# EAGLE library part STM32H743ZI (library ICs)
ARM® Cortex®-M7 STM32H7 Microcontroller IC 32-Bit 480MHz 2MB (2M x 8) FLASH 144-LQFP (20x20)
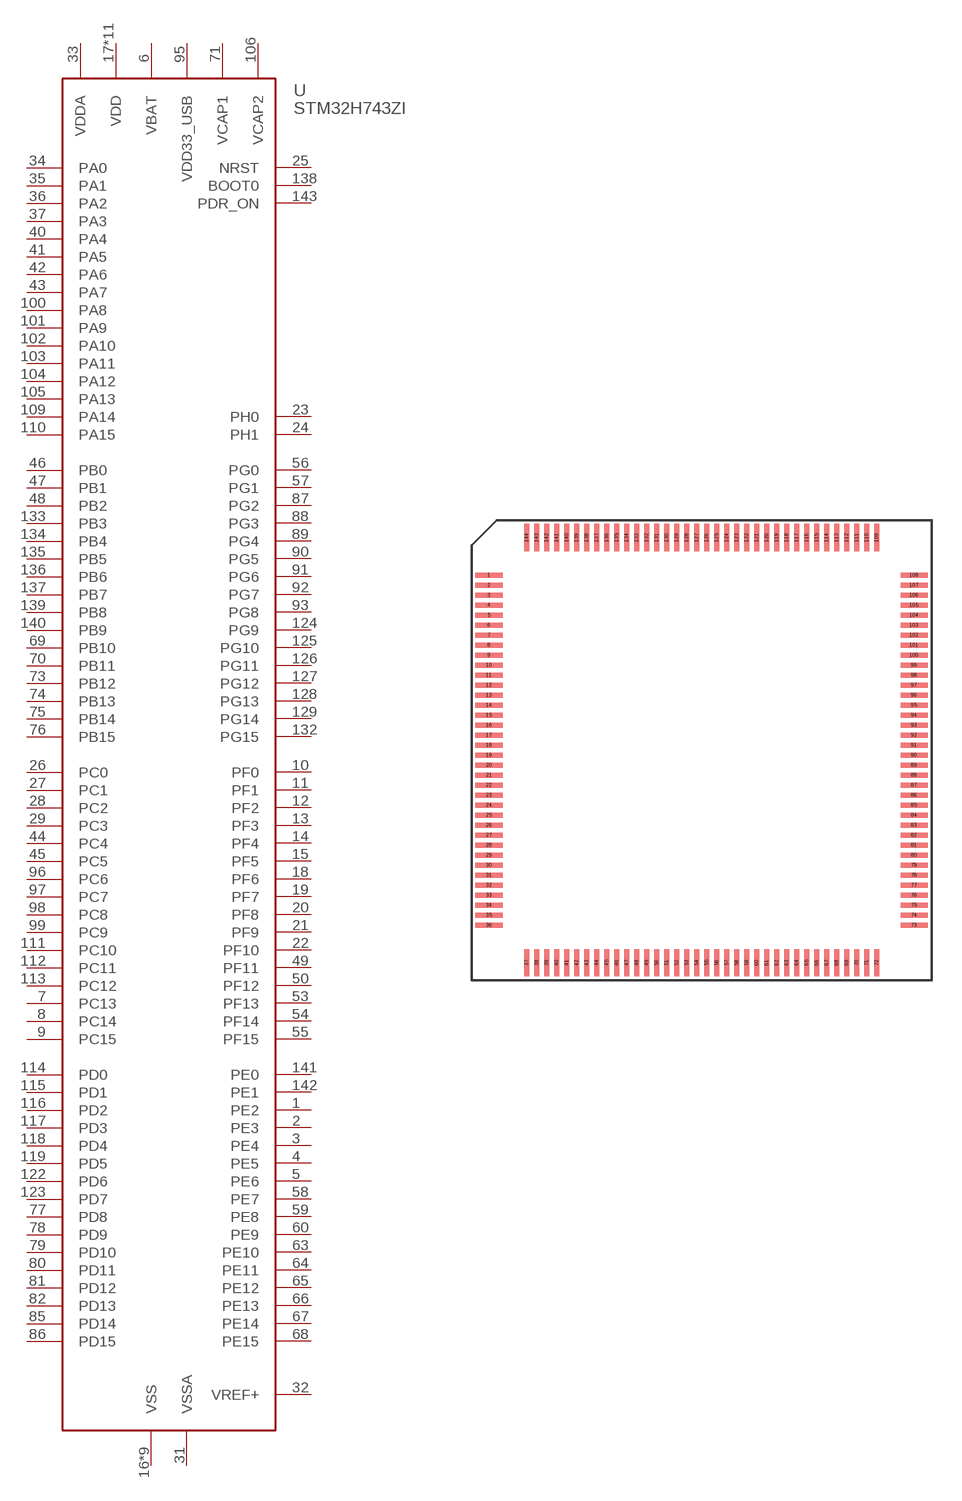
[diagram p255: symbol with the pads of QFP144; footprint QFP144]

Designator prefix U

## STM32H743ZI (DIGIKEY: 497-17721-ND; HEIGHT: 2; PRICE_PER: 11.56; VALUE: STM32H743ZI)  [QFP144]
1  PE2
2  PE3
3  PE4
4  PE5
5  PE6
6  VBAT
7  PC13
8  PC14
9  PC15
10  PF0
11  PF1
12  PF2
13  PF3
14  PF4
15  PF5
16  VSS
17  VDD
18  PF6
19  PF7
20  PF8
21  PF9
22  PF10
23  PH0
24  PH1
25  NRST
26  PC0
27  PC1
28  PC2
29  PC3
30  VDD
31  VSSA
32  VREF+
33  VDDA
34  PA0
35  PA1
36  PA2
37  PA3
38  VSS
39  VDD
40  PA4
41  PA5
42  PA6
43  PA7
44  PC4
45  PC5
46  PB0
47  PB1
48  PB2
49  PF11
50  PF12
51  VSS
52  VDD
53  PF13
54  PF14
55  PF15
56  PG0
57  PG1
58  PE7
59  PE8
60  PE9
61  VSS
62  VDD
63  PE10
64  PE11
65  PE12
66  PE13
67  PE14
68  PE15
69  PB10
70  PB11
71  VCAP1
72  VDD
73  PB12
74  PB13
75  PB14
76  PB15
77  PD8
78  PD9
79  PD10
80  PD11
81  PD12
82  PD13
83  VSS
84  VDD
85  PD14
86  PD15
87  PG2
88  PG3
89  PG4
90  PG5
91  PG6
92  PG7
93  PG8
94  VSS
95  VDD33_USB
96  PC6
97  PC7
98  PC8
99  PC9
100  PA8
101  PA9
102  PA10
103  PA11
104  PA12
105  PA13
106  VCAP2
107  VSS
108  VDD
109  PA14
110  PA15
111  PC10
112  PC11
113  PC12
114  PD0
115  PD1
116  PD2
117  PD3
118  PD4
119  PD5
120  VSS
121  VDD
122  PD6
123  PD7
124  PG9
125  PG10
126  PG11
127  PG12
128  PG13
129  PG14
130  VSS
131  VDD
132  PG15
133  PB3
134  PB4
135  PB5
136  PB6
137  PB7
138  BOOT0
139  PB8
140  PB9
141  PE0
142  PE1
143  PDR_ON
144  VDD

## Footprint QFP144 (pad centres in mm)
smd 1.35 x 0.25: 1 -10.625,8.75; 2 -10.625,8.25; 3 -10.625,7.75; 4 -10.625,7.25; 5 -10.625,6.75; 6 -10.625,6.25; 7 -10.625,5.75; 8 -10.625,5.25; 9 -10.625,4.75; 10 -10.625,4.25; 11 -10.625,3.75; 12 -10.625,3.25; 13 -10.625,2.75; 14 -10.625,2.25; 15 -10.625,1.75; 16 -10.625,1.25; 17 -10.625,0.75; 18 -10.625,0.25; 19 -10.625,-0.25; 20 -10.625,-0.75; 21 -10.625,-1.25; 22 -10.625,-1.75; 23 -10.625,-2.25; 24 -10.625,-2.75; 25 -10.625,-3.25; 26 -10.625,-3.75; 27 -10.625,-4.25; 28 -10.625,-4.75; 29 -10.625,-5.25; 30 -10.625,-5.75; 31 -10.625,-6.25; 32 -10.625,-6.75; 33 -10.625,-7.25; 34 -10.625,-7.75; 35 -10.625,-8.25; 36 -10.625,-8.75; 73 10.625,-8.75; 74 10.625,-8.25; 75 10.625,-7.75; 76 10.625,-7.25; 77 10.625,-6.75; 78 10.625,-6.25; 79 10.625,-5.75; 80 10.625,-5.25; 81 10.625,-4.75; 82 10.625,-4.25; 83 10.625,-3.75; 84 10.625,-3.25; 85 10.625,-2.75; 86 10.625,-2.25; 87 10.625,-1.75; 88 10.625,-1.25; 89 10.625,-0.75; 90 10.625,-0.25; 91 10.625,0.25; 92 10.625,0.75; 93 10.625,1.25; 94 10.625,1.75; 95 10.625,2.25; 96 10.625,2.75; 97 10.625,3.25; 98 10.625,3.75; 99 10.625,4.25; 100 10.625,4.75; 101 10.625,5.25; 102 10.625,5.75; 103 10.625,6.25; 104 10.625,6.75; 105 10.625,7.25; 106 10.625,7.75; 107 10.625,8.25; 108 10.625,8.75
smd 0.25 x 1.35: 37 -8.75,-10.625; 38 -8.25,-10.625; 39 -7.75,-10.625; 40 -7.25,-10.625; 41 -6.75,-10.625; 42 -6.25,-10.625; 43 -5.75,-10.625; 44 -5.25,-10.625; 45 -4.75,-10.625; 46 -4.25,-10.625; 47 -3.75,-10.625; 48 -3.25,-10.625; 49 -2.75,-10.625; 50 -2.25,-10.625; 51 -1.75,-10.625; 52 -1.25,-10.625; 53 -0.75,-10.625; 54 -0.25,-10.625; 55 0.25,-10.625; 56 0.75,-10.625; 57 1.25,-10.625; 58 1.75,-10.625; 59 2.25,-10.625; 60 2.75,-10.625; 61 3.25,-10.625; 62 3.75,-10.625; 63 4.25,-10.625; 64 4.75,-10.625; 65 5.25,-10.625; 66 5.75,-10.625; 67 6.25,-10.625; 68 6.75,-10.625; 69 7.25,-10.625; 70 7.75,-10.625; 71 8.25,-10.625; 72 8.75,-10.625; 109 8.75,10.625; 110 8.25,10.625; 111 7.75,10.625; 112 7.25,10.625; 113 6.75,10.625; 114 6.25,10.625; 115 5.75,10.625; 116 5.25,10.625; 117 4.75,10.625; 118 4.25,10.625; 119 3.75,10.625; 120 3.25,10.625; 121 2.75,10.625; 122 2.25,10.625; 123 1.75,10.625; 124 1.25,10.625; 125 0.75,10.625; 126 0.25,10.625; 127 -0.25,10.625; 128 -0.75,10.625; 129 -1.25,10.625; 130 -1.75,10.625; 131 -2.25,10.625; 132 -2.75,10.625; 133 -3.25,10.625; 134 -3.75,10.625; 135 -4.25,10.625; 136 -4.75,10.625; 137 -5.25,10.625; 138 -5.75,10.625; 139 -6.25,10.625; 140 -6.75,10.625; 141 -7.25,10.625; 142 -7.75,10.625; 143 -8.25,10.625; 144 -8.75,10.625